# EAGLE library part NTC-SW8 (library 1A-meinLib)
NTC im Aluminiumkörper, SW8, M3 Schraubbar
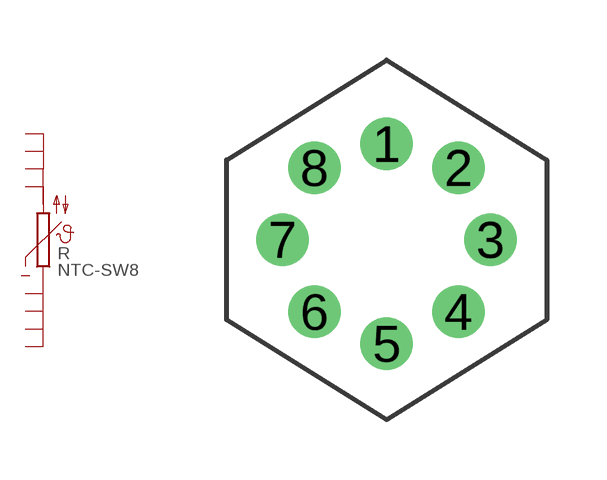
[diagram p112: symbol with the pads of NTC-SW8; footprint NTC-SW8]

Designator prefix R

## NTC-SW8  [NTC-SW8]
1  1  pas
2  2  pas
3  3  pas
4  4  pas
5  5  pas
6  6  pas
7  7  pas
8  8  pas

## Footprint NTC-SW8 (pad centres in mm)
drill 0.8 round: 1 0,2.4; 2 1.8,1.8; 3 2.6,0; 4 1.8,-1.8; 5 0,-2.6; 6 -1.8,-1.8; 7 -2.6,0; 8 -1.8,1.8